# Altium footprint library LM393MX.PcbLib: 1 footprints
Each footprint in its own frame and in the unit in brackets; x right, y up, seen from the top. Pads: shape width x height; smd on the part's side, far side on the other; paste and mask are expansions set on the pad; w line width, h text height; cw(c..) or ccw(c..) is an arc to the next point about the centre after c.
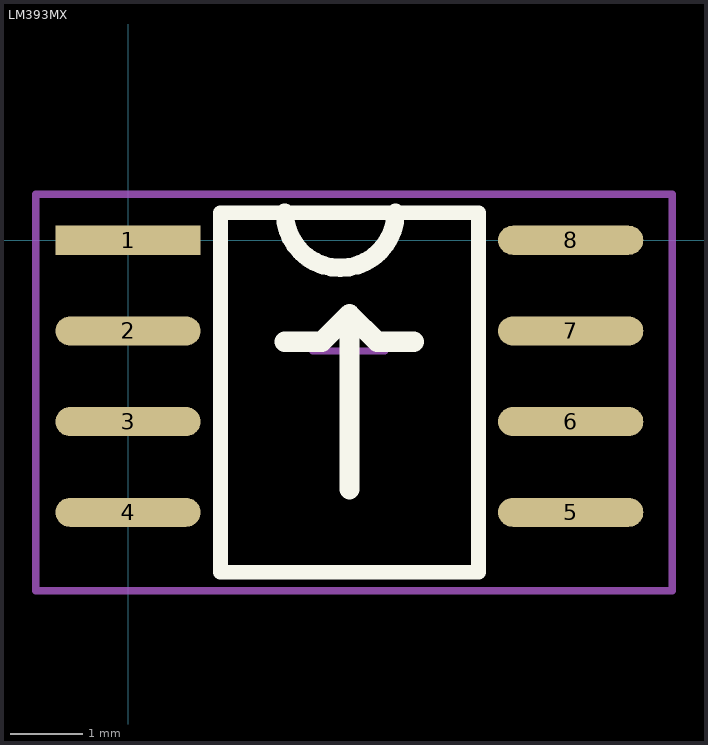
[diagram p0: the footprint, top view; thin cyan lines are the x and y axes]

## LM393MX [mm]
pads (8):
  rect 2x0.4 smd: 1(0,0)
  oval 2x0.4 smd: 2(0,-1.249) 3(0,-2.498) 4(0,-3.746) 5(6.096,-3.746) 6(6.096,-2.498) 7(6.096,-1.249) 8(6.096,0)
Top Overlay:
  lines w0.2: 1.273,-4.572 4.826,-4.572 4.826,0.381 1.273,0.381 1.273,-4.572
  lines w0.254: 2.159,0.381 ccw(c2.921,0.381) 2.921,-0.381 ccw(c2.921,0.381) 3.683,0.381
  lines w0.278: 2.159,-1.397 2.667,-1.397 3.048,-1.016 ; 3.048,-3.429 3.048,-1.016 ; 3.937,-1.397 3.429,-1.397 3.048,-1.016
Mechanical 15:
  lines w0.1: 2.54,-1.524 3.54,-1.524 ; 3.027,-2.069 3.027,-1.069 ; -1.27,-4.826 7.493,-4.826 7.493,0.635 -1.27,0.635 -1.27,-4.826